# Altium footprint library SensWearComponents.PcbLib: 37 footprints (part 1 of 3)
Each footprint in its own frame and in the unit in brackets; x right, y up, seen from the top. Pads: shape width x height; smd on the part's side, far side on the other; paste and mask are expansions set on the pad; w line width, h text height; cw(c..) or ccw(c..) is an arc to the next point about the centre after c.
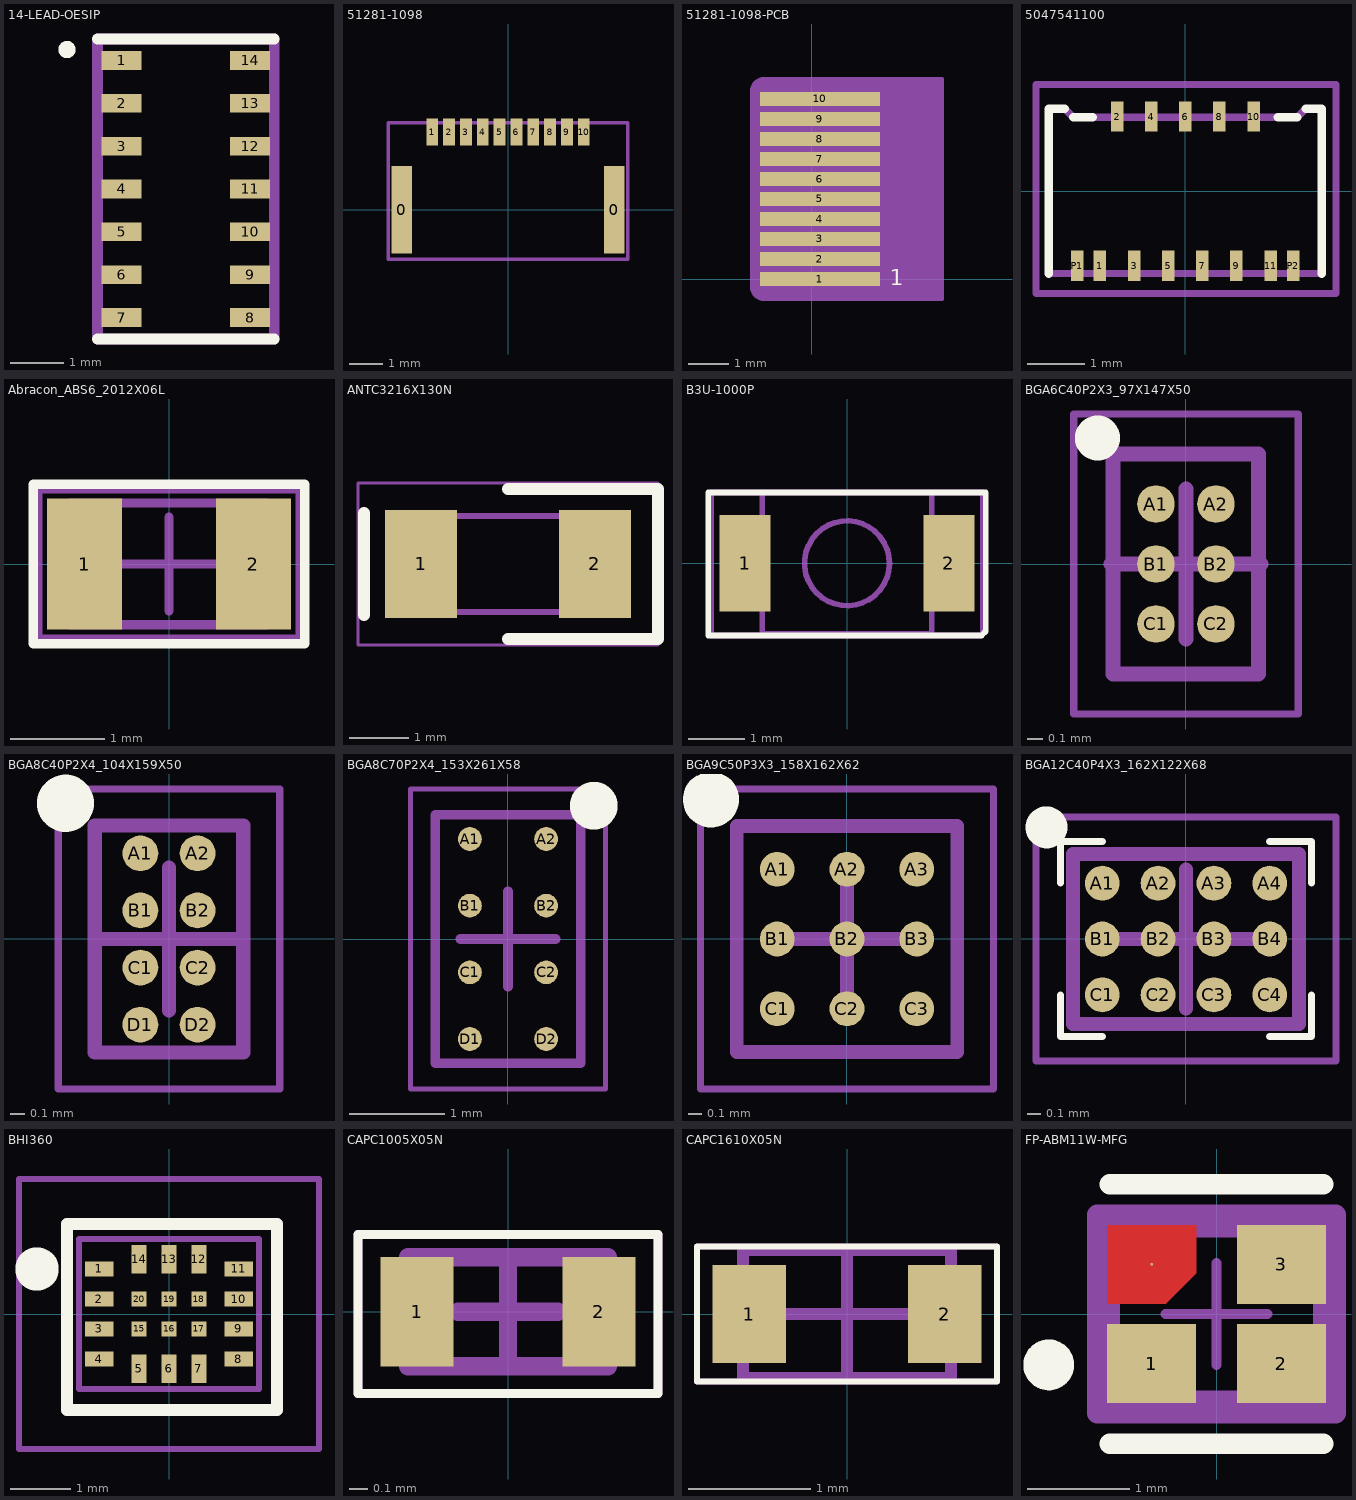
[diagram p0: the footprints below, top view; thin cyan lines are the x and y axes]

## 14-LEAD-OESIP [mm]
pads (14):
  rect 0.75x0.35 smd: 1(1268.8,1272.4) 2(1268.8,1271.6) 3(1268.8,1270.8) 4(1268.8,1270) 5(1268.8,1269.2) 6(1268.8,1268.4) 7(1268.8,1267.6) 8(1271.2,1267.6) 9(1271.2,1268.4) 10(1271.2,1269.2) 11(1271.2,1270) 12(1271.2,1270.8) 13(1271.2,1271.6) 14(1271.2,1272.4)
Top Overlay:
  circle w0.2: c1267.781,1272.603 r0.06
  lines w0.2: 1268.35,1267.2 1271.65,1267.2 ; 1268.35,1272.8 1271.65,1272.8
Mechanical 13:
  lines w0.2: 1268.35,1267.2 1271.65,1267.2 1271.65,1272.8 1268.35,1272.8 1268.35,1267.2
Mechanical 29:
  text ".Designator" at 1270.212,1267.8 h1
3D body "MAX30101EFD+T.stp": height 1.33, standoff 0, extent 1268.6,1267.2 1271.4,1272.8

## 51281-1098 [mm]
pads (12):
  rect 0.6x2.6 smd: 0(-3.15,0) 0(3.15,0)
  rect 0.35x0.8 smd: 1(-2.25,2.3) 2(-1.75,2.3) 3(-1.25,2.3) 4(-0.75,2.3) 5(-0.25,2.3) 6(0.25,2.3) 7(0.75,2.3) 8(1.25,2.3) 9(1.75,2.3) 10(2.25,2.3)
Mechanical 15:
  lines w0.1: -3.55,-1.475 3.55,-1.475 3.55,2.575 -3.55,2.575 -3.55,-1.475
Mechanical 29:
  lines w0.1: -3.55,-1.475 3.55,-1.475 3.55,2.575 -3.55,2.575 -3.55,-1.475
  text ".Designator" at -3.499,-0.233 h0.7
3D body "0512811098.stp": height 1.17, standoff -0.03, extent -3.55,-1.475 3.55,2.575

## 51281-1098-PCB [mm]
pads (10):
  rect 3x0.35 smd paste-400 mask+0: 1(0.2,0) 2(0.2,0.5) 3(0.2,1) 4(0.2,1.5) 5(0.2,2) 6(0.2,2.5) 7(0.2,3) 8(0.2,3.5) 9(0.2,4) 10(0.2,4.5)
Top Overlay:
  text "1" at 1.95,-0.15 h0.4
Mechanical 1:
  lines w0.1: 3.25,-0.5 -1.2,-0.5 cw(c-1.2,-0.2) -1.5,-0.2 -1.5,4.7 cw(c-1.2,4.7) -1.2,5 3.25,5
Mechanical 2:
  region: -1.2,-0.5 -1.26,-0.5 -1.37,-0.454 -1.454,-0.37 -1.5,-0.26 -1.5,-0.2 -1.5,4.7 -1.5,4.76 -1.454,4.87 -1.37,4.954 -1.26,5 -1.2,5 3.25,5 3.25,-0.5
  lines w0.1: -1.5,-0.2 ccw(c-1.2,-0.2) -1.2,-0.5 3.25,-0.5 3.25,5 -1.2,5 ccw(c-1.2,4.7) -1.5,4.7 -1.5,-0.2
  text "Stiffner" at -0.75,-1.5 h0.4

## 5047541100 [mm]
pads (13):
  rect 0.22x0.54 smd: 1(-1.5,-1.31) 3(-0.9,-1.31) 5(-0.3,-1.31) 7(0.3,-1.31) 9(0.9,-1.31) 11(1.5,-1.31) P1(-1.9,-1.31) P2(1.9,-1.31)
  rect 0.22x0.53 smd: 2(-1.2,1.31) 4(-0.6,1.31) 6(0,1.31) 8(0.6,1.31) 10(1.2,1.31)
Top Overlay:
  lines w0.152: -2.4,-1.45 -2.4,1.45 -2.12,1.45 ; -1.97,1.3 -1.627,1.3 ; 1.628,1.3 1.97,1.3 ; 2.12,1.45 2.4,1.45 2.4,-1.45
Mechanical 13:
  lines w0.127: -2.4,-1.45 -2.4,1.45 -2.12,1.45 -1.97,1.3 1.97,1.3 2.12,1.45 2.4,1.45 2.4,-1.45 -2.4,-1.45
Mechanical 15:
  lines w0.127: -2.625,-1.8 2.65,-1.8 2.65,1.875 -2.625,1.875 -2.625,-1.8
Mechanical 29:
  text ".Designator" at -2.2,-0.142 h0.7
3D body "5047541100.stp": height 1.46, standoff -0.02, extent -2.375,-1.525 2.425,1.475

## Abracon_ABS6_2012X06L [mm] "Abracon ABS06 Series, 2-Leads, Body 2.0x1.2mm, IPC High Density"
height 0.6
pads (2):
  rect 0.8x1.4 smd: 1(-0.9,0) 2(0.9,0)
Top Overlay:
  lines w0.1: -1.45,-0.85 -1.45,0.85 1.45,0.85 1.45,-0.85 -1.45,-0.85
Mechanical 13:
  lines w0.1: -1.05,-0.65 -1.05,0.65 1.05,0.65 1.05,-0.65 -1.05,-0.65
Mechanical 15:
  lines w0.1: -0.5,0 0.5,0 ; 0,-0.5 0,0.5 ; -1.4,-0.8 1.4,-0.8 1.4,0.8 -1.4,0.8 -1.4,-0.8
Mechanical 29:
  lines w0.1: -1.4,-0.8 1.4,-0.8 1.4,0.8 -1.4,0.8 -1.4,-0.8
  text ".Designator" at -0.375,-0.075 h0.5
3D body: height 0.6, standoff 0, extent -1.05,-0.65 1.05,0.65

## ANTC3216X130N [mm]
pads (2):
  rect 1.2x1.8 smd: 1(1268.55,1270) 2(1271.45,1270)
Top Overlay:
  lines w0.2: 1267.6,1269.15 1267.6,1270.85 ; 1270,1268.75 1272.5,1268.75 1272.5,1271.25 1270,1271.25
Mechanical 15:
  lines w0.1: 1268.4,1270.2 1269,1270.8 ; 1268.4,1269.2 1268.4,1270.8 1271.6,1270.8 1271.6,1269.2 1268.4,1269.2
Mechanical 20:
  lines w0.05: 1267.5,1268.65 1267.5,1271.35 1272.5,1271.35 1272.5,1268.65 1267.5,1268.65
3D body "2450AT18E0100E.stp": height 1.3, standoff 0, extent 1268.4,1269.2 1271.6,1270.8

## B3U-1000P [mm]
pads (2):
  rect 0.9x1.7 smd: 1(-1.8,0) 2(1.8,0)
Top Overlay:
  lines w0.1: -2.45,-1.275 -2.45,1.25 2.45,1.25 2.45,-1.2 2.375,-1.275 -2.45,-1.275
Mechanical 15:
  circle w0.1: c0,0 r0.75
  lines w0.1: -1.5,-0.7 -2,-0.7 -2,0.7 -1.5,0.7 ; 1.5,-0.7 2,-0.7 2,0.7 1.5,0.7 ; -1.5,-1.25 -1.5,1.25 1.5,1.25 1.5,-1.25 -1.5,-1.25
Mechanical 29:
  lines w0.1: -2.4,-1.275 2.375,-1.275 2.4,-1.25 2.4,1.25 -2.4,1.25 -2.4,-1.275
  text ".Designator" at -0.05,-0.05 h0.7
3D body: height 0.05, standoff 0, extent 1.501,-0.699 1.999,0.699
3D body: height 0.05, standoff 0, extent -1.999,-0.699 -1.501,0.699
3D body: height 1.2, standoff 0, extent -1.499,-1.249 1.499,1.249
3D body: height 1.6, standoff 1.2, extent -0.744,-0.748 0.75,0.749

## BGA6C40P2X3_97X147X50 [mm] "BGA, 6-Leads, Body 0,97x1,47mmx0,50mm, Pitch 0,40mm"
height 0.5
pads (6):
  round 0.25 smd paste+0 mask+0: A1(-0.2,0.4) A2(0.2,0.4) B1(-0.2,0) B2(0.2,0) C1(-0.2,-0.4) C2(0.2,-0.4)
Top Overlay:
  circle w0.2: c-0.59,0.84 r0.05
Mechanical 15:
  lines w0.1: -0.485,-0.735 -0.485,0.735 0.485,0.735 0.485,-0.735 -0.485,-0.735
Mechanical 29:
  lines w0.05: -0.75,-1 -0.75,1 0.75,1 0.75,-1 -0.75,-1
  lines w0.1: -0.5,0 0.5,0 ; 0,-0.5 0,0.5
  text ".Designator" at 0.254,0.762 h1.52
3D body "BGA6C40P2X3_97X147X50.step": height 0.5, standoff 0, extent -0.485,-0.735 0.485,0.735

## BGA8C40P2X4_104X159X50 [mm] "BGA, 8-Leads, Body 1,04x1,59mmx0,50mm, Pitch 0,40mm"
height 0.5
pads (8):
  round 0.25 smd paste+0 mask+0: A1(-0.2,0.6) A2(0.2,0.6) B1(-0.2,0.2) B2(0.2,0.2) C1(-0.2,-0.2) C2(0.2,-0.2) D1(-0.2,-0.6) D2(0.2,-0.6)
Top Overlay:
  circle w0.3: c-0.725,0.95 r0.05
Mechanical 15:
  lines w0.1: -0.5,0 0.5,0 ; 0,-0.5 0,0.5 ; -0.52,-0.795 -0.52,0.795 0.52,0.795 0.52,-0.795 -0.52,-0.795
Mechanical 29:
  lines w0.05: -0.775,-1.05 -0.775,1.05 0.775,1.05 0.775,-1.05 -0.775,-1.05
  text ".Designator" at -0.927,-0.106 h0.5
3D body "BGA8C40P2X4_104X159X50.step": height 0.5, standoff 0, extent -0.52,-0.795 0.52,0.795

## BGA8C70P2X4_153X261X58 [mm] "BGA, 8-Leads, Body 1.53x2.61mmx0.58mm, Pitch 0.70mm"
height 0.58
pads (8):
  round 0.25 smd mask+0.05: A1(-0.4,1.05) A2(0.4,1.05) B1(-0.4,0.35) B2(0.4,0.35) C1(-0.4,-0.35) C2(0.4,-0.35) D1(-0.4,-1.05) D2(0.4,-1.05)
Top Overlay:
  circle w0.4: c0.9,1.4 r0.05
Mechanical 15:
  lines w0.1: -0.5,0 0.5,0 ; 0,-0.5 0,0.5 ; -0.765,-1.305 0.765,-1.305 0.765,1.305 -0.765,1.305 -0.765,-1.305
Mechanical 29:
  lines w0.05: -1.025,-1.575 1.025,-1.575 1.025,1.575 -1.025,1.575 -1.025,-1.575
  text ".Designator" at 0.157,-1.566 h0.7
3D body "BGA8C70P2X4_153X261X58.step": height 0.58, standoff 0, extent -0.765,-1.305 0.765,1.305

## BGA9C50P3X3_158X162X62 [mm] "BGA, 9-Leads, Body 1,58x1,62mmx0,63mm, Pitch 0,50mm"
height 0.63
pads (9):
  round 0.25 smd paste+0 mask+0: A1(-0.5,0.5) A2(0,0.5) A3(0.5,0.5) B1(-0.5,0) B2(0,0) B3(0.5,0) C1(-0.5,-0.5) C2(0,-0.5) C3(0.5,-0.5)
Top Overlay:
  circle w0.3: c-0.975,1 r0.05
Mechanical 15:
  lines w0.1: -0.5,0 0.5,0 ; 0,-0.5 0,0.5 ; -0.79,-0.81 -0.79,0.81 0.79,0.81 0.79,-0.81 -0.79,-0.81
Mechanical 29:
  lines w0.05: -1.05,-1.075 -1.05,1.075 1.05,1.075 1.05,-1.075 -1.05,-1.075
  text ".Designator" at -1.027,-0.113 h0.5
3D body "BGA9C50P3X3_158X162X62.step": height 0.63, standoff 0, extent -0.79,-0.81 0.79,0.81

## BGA12C40P4X3_162X122X68 [mm] "BGA, 12-Leads, Body 1.62x1.22mmx0.68mm, Pitch 0.40mm"
height 0.68
pads (12):
  round 0.25 smd paste+0 mask+0: A1(-0.6,0.4) A2(-0.2,0.4) A3(0.2,0.4) A4(0.6,0.4) B1(-0.6,0) B2(-0.2,0) B3(0.2,0) B4(0.6,0) C1(-0.6,-0.4) C2(-0.2,-0.4) C3(0.2,-0.4) C4(0.6,-0.4)
Top Overlay:
  circle w0.2: c-1,0.8 r0.05
  lines w0.05: -0.9,-0.4 -0.9,-0.7 -0.6,-0.7 ; -0.9,0.4 -0.9,0.7 -0.6,0.7 ; 0.6,-0.7 0.9,-0.7 0.9,-0.4 ; 0.6,0.7 0.9,0.7 0.9,0.4
Mechanical 13:
  lines w0.1: -0.81,-0.61 0.81,-0.61 0.81,0.61 -0.81,0.61 -0.81,-0.61
Mechanical 15:
  lines w0.05: -1.075,-0.875 -1.075,0.875 1.075,0.875 1.075,-0.875 -1.075,-0.875
  lines w0.1: -0.5,0 0.5,0 ; 0,-0.5 0,0.5
Mechanical 29:
  lines w0.05: -1.075,-0.875 -1.075,0.875 1.075,0.875 1.075,-0.875 -1.075,-0.875
  text ".Designator" at 0,0 h0.5
3D body "BGA12C40P4X3_162X122X68.step": height 0.67, standoff 0, extent -0.81,-0.61 0.81,0.61

## BHI360 [mm]
pads (20):
  rect 0.475x0.25 smd mask+0.05: 1(-1.163,0.75) 2(-1.163,0.25) 3(-1.163,-0.25) 4(-1.163,-0.75) 8(1.163,-0.75) 9(1.163,-0.25) 10(1.163,0.25) 11(1.163,0.75)
  rect 0.25x0.475 smd mask+0.05: 5(-0.5,-0.913) 6(0,-0.913) 7(0.5,-0.913) 12(0.5,0.912) 13(0,0.912) 14(-0.5,0.912)
  rect 0.25x0.25 smd mask+0.05: 15(-0.5,-0.25) 16(0,-0.25) 17(0.5,-0.25) 18(0.5,0.25) 19(0,0.25) 20(-0.5,0.25)
Top Overlay:
  circle w0.5: c-2.2,0.75 r0.112
  lines w0.2: -1.7,-1.6 1.8,-1.6 1.8,1.5 -1.7,1.5 -1.7,-1.6
Mechanical 15:
  lines w0.1: -1.5,-1.25 -1.5,1.25 1.5,1.25 1.5,-1.25 -1.5,-1.25
Mechanical 20:
  lines w0.1: -2.5,-2.25 -2.5,2.25 2.5,2.25 2.5,-2.25 -2.5,-2.25
Mechanical 29:
  lines w0.2: -1.7,-1.6 -1.7,1.5 1.8,1.5 1.8,-1.6 -1.7,-1.6
  text ".Designator" at -2.254,-0.226 h1
3D body "BHI360.stp": height 0.94, standoff -0.01, extent -1.5,-1.25 1.5,1.25

## CAPC1005X05N [mm] "Chip Capacitor, 2-Leads, Body 1.00x0.50mm, IPC Medium Density"
height 0.5
pads (2):
  rect 0.4x0.6 smd mask+0.04: 1(-0.5,0) 2(0.5,0)
Top Overlay:
  lines w0.05: -0.825,-0.45 -0.825,0.425 0.825,0.425 0.825,-0.45 -0.825,-0.45
Mechanical 13:
  lines w0.1: -0.55,-0.3 -0.55,0.3 0.55,0.3 0.55,-0.3 -0.55,-0.3
Mechanical 15:
  lines w0.05: -0.825,-0.45 0.825,-0.45 0.825,0.425 -0.825,0.425 -0.825,-0.45
  lines w0.1: -0.275,0 0.275,0 ; 0,-0.275 0,0.275
Mechanical 29:
  lines w0.05: -0.825,-0.45 0.825,-0.45 0.825,0.425 -0.825,0.425 -0.825,-0.45
  text ".Designator" at -0.627,-0.116 h0.4
3D body "CAPC1005X06N.step": height 0.6, standoff 0, extent -0.55,-0.3 0.55,0.3

## CAPC1610X05N [mm] "Chip Capacitor, 2-Leads, Body 1.60x1.00mm, IPC Medium Density"
height 0.5
pads (2):
  rect 0.6x0.8 smd mask+0.05: 1(-0.8,0) 2(0.8,0)
Top Overlay:
  lines w0.05: -1.225,-0.55 1.225,-0.55 1.225,0.55 -1.225,0.55 -1.225,-0.55
Mechanical 13:
  lines w0.1: -0.85,-0.525 0.85,-0.525 0.85,0.525 -0.85,0.525 -0.85,-0.525
Mechanical 15:
  lines w0.05: -1.225,-0.55 -1.225,0.55 1.225,0.55 1.225,-0.55 -1.225,-0.55
  lines w0.1: -0.5,0 0.5,0 ; 0,-0.5 0,0.5
Mechanical 29:
  lines w0.05: -1.225,-0.55 -1.225,0.55 1.225,0.55 1.225,-0.55 -1.225,-0.55
  text ".Designator" at -1.025,-0.113 h0.5
3D body "CAPC1610X10N.step": height 1, standoff 0, extent -0.85,-0.525 0.85,0.525

## FP-ABM11W-MFG [mm]
pads (4):
  rect 0.875x0.775 smd paste+0 mask+0: 1(-0.637,-0.487) 2(0.637,-0.487) 3(0.637,0.487)
  round 0.025 smd paste+0 mask+0: 4(-0.637,0.487)
Top Layer:
  region: -0.5,0.1 -0.2,0.4 -0.2,0.875 -1.075,0.875 -1.075,0.1
Top Overlay:
  circle w0.25: c-1.65,-0.5 r0.125
  lines w0.2: -1.05,-1.275 1.05,-1.275 ; -1.05,1.275 1.05,1.275
Mechanical 6:
  lines w0.1: -0.5,0 0.5,0 ; 0,-0.5 0,0.5
Mechanical 13:
  lines w0.2: -1.05,-0.85 1.05,-0.85 1.05,0.85 -1.05,0.85 -1.05,-0.85
Mechanical 15:
  lines w0.2: -1.175,-0.975 1.175,-0.975 1.175,0.975 -1.175,0.975 -1.175,-0.975
Mechanical 29:
  lines w0.2: -1.175,-0.975 1.175,-0.975 1.175,0.975 -1.175,0.975 -1.175,-0.975
  text ".Designator" at -2.254,-0.226 h1
3D body "ABM11W-32.0000MHZ-8-B1U-T3.STEP": height 0.5, standoff 0, extent -1,-0.8 1,0.8